# Altium schematic symbol library ReadyButNotListed.SchLib: 5 symbols
Pins are listed as number, name and electrical type; pins without a type are passive.

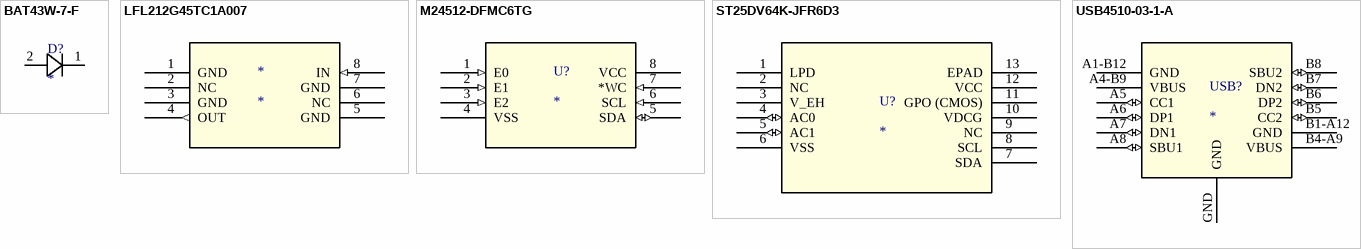
[diagram p0: symbols BAT43W-7-F to USB4510-03-1-A]

## BAT43W-7-F
designator D?
footprint BAT43W-7-F
pins: 1, 2

## LFL212G45TC1A007
designator *
footprint LFL212G45TC1A007
pins: 1 GND, 2 NC, 3 GND, 4 OUT (out), 5 GND, 6 NC, 7 GND, 8 IN (in)

## M24512-DFMC6TG
designator U?
footprint M24512-DFMC6TG
pins: 1 E0 (in), 2 E1 (in), 3 E2 (in), 4 VSS, 5 SDA (io), 6 SCL (in), 7 *WC (in), 8 VCC (power)

## ST25DV64K-JFR6D3
designator U?
footprint ST25DV64K-JFR6D3
pins: 1 LPD, 2 NC, 3 V_EH, 4 AC0 (io), 5 AC1 (io), 6 VSS, 7 SDA, 8 SCL, 9 NC, 10 VDCG, 11 GPO (CMOS), 12 VCC (power), 13 EPAD

## USB4510-03-1-A
designator USB?
footprint USB4510-03-1-A
pins: A1-B12 GND, A4-B9 VBUS (power), A5 CC1 (io), A6 DP1 (io), A7 DN1 (io), A8 SBU1 (io), B1-A12 GND, B4-A9 VBUS (power), B5 CC2 (io), B6 DP2 (io), B7 DN2 (io), B8 SBU2 (io), GND